# EAGLE library part WS2812B_LED (library RodrigoMarques_Parts)
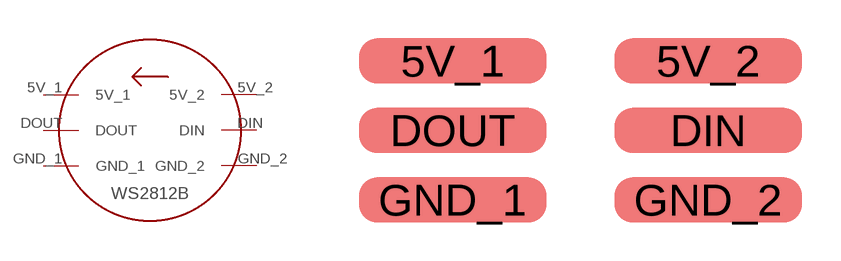
[diagram p3: symbol with the pads of CIRCLE_PCB; footprint CIRCLE_PCB]

Designator prefix -

## WS2812B_LED  [CIRCLE_PCB]
5V_1  5V_1
5V_2  5V_2
DIN  DIN
DOUT  DOUT
GND_1  GND_1
GND_2  GND_2

## Footprint CIRCLE_PCB (pad centres in mm)
smd 5 x 1.2: 5V_1 -3.4,1.91; 5V_2 3.4,1.91; DIN 3.4,0.06; DOUT -3.4,0.06; GND_1 -3.4,-1.79; GND_2 3.4,-1.79